# EAGLE library part BTM-512 (library BTM-521)
BTM-521
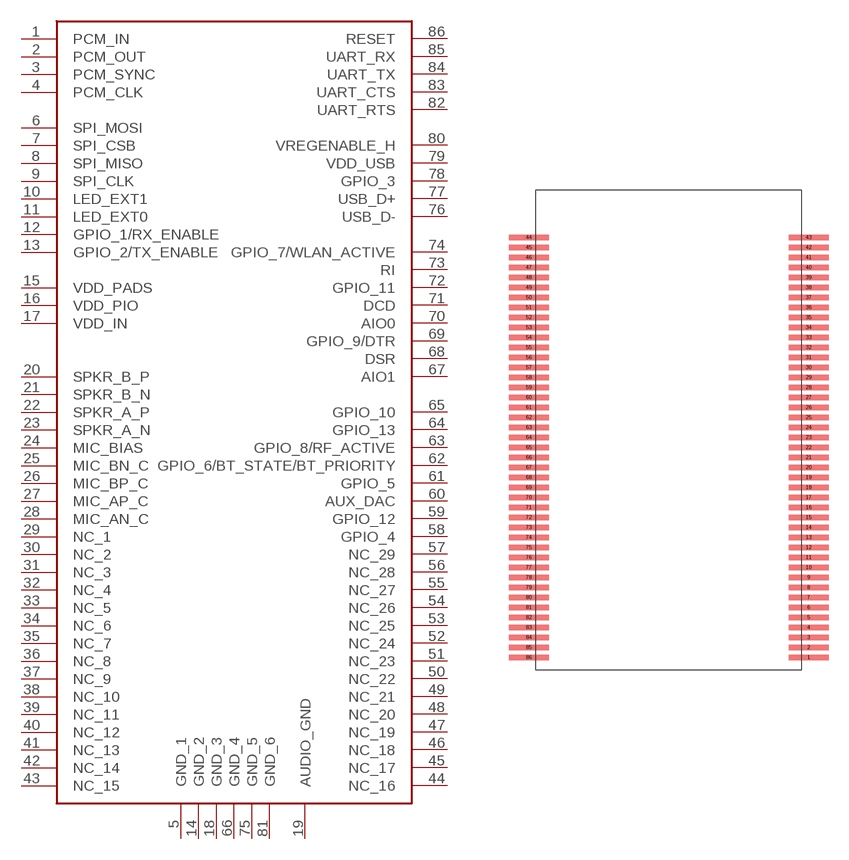
[diagram p0: symbol with the pads of BTM_521_PACKAGE; footprint BTM_521_PACKAGE]

Designator prefix -

## BTM-512  [BTM_521_PACKAGE]
1  PCM_IN
2  PCM_OUT
3  PCM_SYNC
4  PCM_CLK
5  GND_1
6  SPI_MOSI
7  SPI_CSB
8  SPI_MISO
9  SPI_CLK
10  LED_EXT1
11  LED_EXT0
12  GPIO_1/RX_ENABLE
13  GPIO_2/TX_ENABLE
14  GND_2
15  VDD_PADS
16  VDD_PIO
17  VDD_IN
18  GND_3
19  AUDIO_GND
20  SPKR_B_P
21  SPKR_B_N
22  SPKR_A_P
23  SPKR_A_N
24  MIC_BIAS
25  MIC_BN_C
26  MIC_BP_C
27  MIC_AP_C
28  MIC_AN_C
29  NC_1
30  NC_2
31  NC_3
32  NC_4
33  NC_5
34  NC_6
35  NC_7
36  NC_8
37  NC_9
38  NC_10
39  NC_11
40  NC_12
41  NC_13
42  NC_14
43  NC_15
44  NC_16
45  NC_17
46  NC_18
47  NC_19
48  NC_20
49  NC_21
50  NC_22
51  NC_23
52  NC_24
53  NC_25
54  NC_26
55  NC_27
56  NC_28
57  NC_29
58  GPIO_4
59  GPIO_12
60  AUX_DAC
61  GPIO_5
62  GPIO_6/BT_STATE/BT_PRIORITY
63  GPIO_8/RF_ACTIVE
64  GPIO_13
65  GPIO_10
66  GND_4
67  AIO1
68  DSR
69  GPIO_9/DTR
70  AIO0
71  DCD
72  GPIO_11
73  RI
74  GPIO_7/WLAN_ACTIVE
75  GND_5
76  USB_D-
77  USB_D+
78  GPIO_3
79  VDD_USB
80  VREGENABLE_H
81  GND_6
82  UART_RTS
83  UART_CTS
84  UART_TX
85  UART_RX
86  RESET

## Footprint BTM_521_PACKAGE (pad centres in mm)
BTM-521
smd 3 x 0.4: 1 10.5,-17.1; 2 10.5,-16.35; 3 10.5,-15.6; 4 10.5,-14.85; 5 10.5,-14.1; 6 10.5,-13.35; 7 10.5,-12.6; 8 10.5,-11.85; 9 10.5,-11.1; 10 10.5,-10.35; 11 10.5,-9.6; 12 10.5,-8.85; 13 10.5,-8.1; 14 10.5,-7.35; 15 10.5,-6.6; 16 10.5,-5.85; 17 10.5,-5.1; 18 10.5,-4.35; 19 10.5,-3.6; 20 10.5,-2.85; 21 10.5,-2.1; 22 10.5,-1.35; 23 10.5,-0.6; 24 10.5,0.15; 25 10.5,0.9; 26 10.5,1.65; 27 10.5,2.4; 28 10.5,3.15; 29 10.5,3.9; 30 10.5,4.65; 31 10.5,5.4; 32 10.5,6.15; 33 10.5,6.9; 34 10.5,7.65; 35 10.5,8.4; 36 10.5,9.15; 37 10.5,9.9; 38 10.5,10.65; 39 10.5,11.4; 40 10.5,12.15; 41 10.5,12.9; 42 10.5,13.65; 43 10.5,14.4; 44 -10.5,14.4; 45 -10.5,13.65; 46 -10.5,12.9; 47 -10.5,12.15; 48 -10.5,11.4; 49 -10.5,10.65; 50 -10.5,9.9; 51 -10.5,9.15; 52 -10.5,8.4; 53 -10.5,7.65; 54 -10.5,6.9; 55 -10.5,6.15; 56 -10.5,5.4; 57 -10.5,4.65; 58 -10.5,3.9; 59 -10.5,3.15; 60 -10.5,2.4; 61 -10.5,1.65; 62 -10.5,0.9; 63 -10.5,0.15; 64 -10.5,-0.6; 65 -10.5,-1.35; 66 -10.5,-2.1; 67 -10.5,-2.85; 68 -10.5,-3.6; 69 -10.5,-4.35; 70 -10.5,-5.1; 71 -10.5,-5.85; 72 -10.5,-6.6; 73 -10.5,-7.35; 74 -10.5,-8.1; 75 -10.5,-8.85; 76 -10.5,-9.6; 77 -10.5,-10.35; 78 -10.5,-11.1; 79 -10.5,-11.85; 80 -10.5,-12.6; 81 -10.5,-13.35; 82 -10.5,-14.1; 83 -10.5,-14.85; 84 -10.5,-15.6; 85 -10.5,-16.35; 86 -10.5,-17.1